# EAGLE library part ESP8266_NODEMCU (library AB_ESP8266_NODE_MCU)
ESP8266 NODE MCU ( OFFICIAL ) Created by Aadesh Borate Features : Input voltage : 4.5 V - 10 V Operating voltage : 3.3 V Flash Memory/SRAM : 4 MB / 64 KB Digital I/O Pins : 11 Analog Input Pins : 1 ADC Range : 0-3.3V Clock Speed : 80 MHz WiFi Built-In : 802.11 b/g/n PWM frequency : 100 Hz to 1 kHz Current sense : 0.13 V/A NodeMCU Size : 49 mm x 26 mm Buy this module at Robu.in <https://robu.in/product/nodemcu-cp2102-board/> <
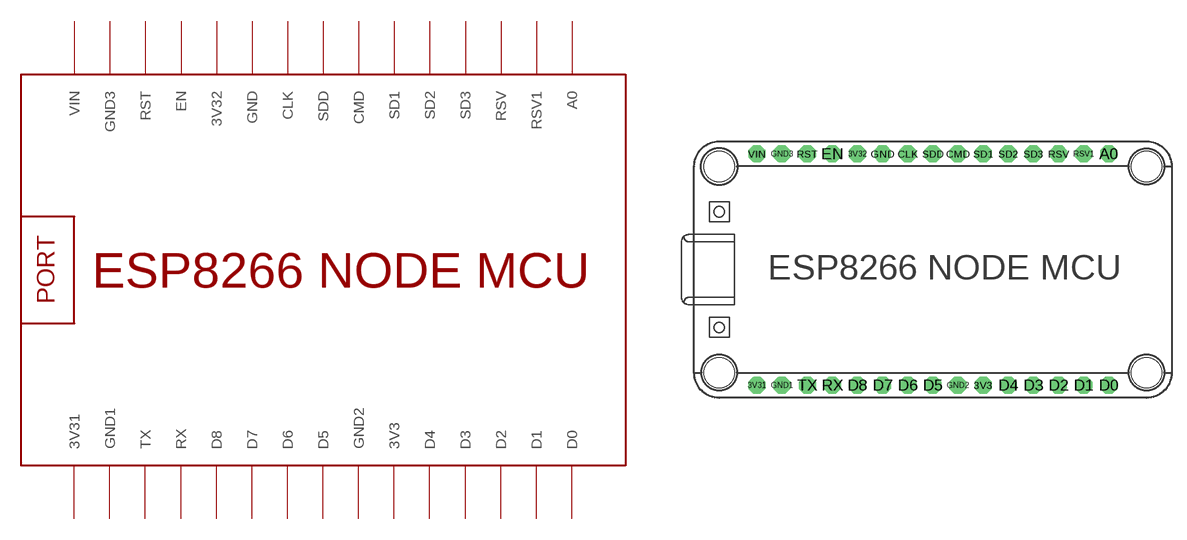
[diagram p0: symbol with the pads of ESP8266_NODEMCU; footprint ESP8266_NODEMCU]

Designator prefix -

## ESP8266_NODEMCU  [ESP8266_NODEMCU]
3V3  3V3
3V31  3V31
3V32  3V32
A0  A0
CLK  CLK
CMD  CMD
D0  D0
D1  D1
D2  D2
D3  D3
D4  D4
D5  D5
D6  D6
D7  D7
D8  D8
EN  EN
GND  GND
GND1  GND1
GND2  GND2
GND3  GND3
RST  RST
RSV  RSV
RSV1  RSV1
RX  RX
SD1  SD1
SD2  SD2
SD3  SD3
SDD  SDD
TX  TX
VIN  VIN

## Footprint ESP8266_NODEMCU (pad centres in mm)
ESP8266 NODE MCU ( OFFICIAL ) Created by Aadesh Borate Features : Input voltage : 4.5 V - 10 V Operating voltage : 3.3 V Flash Memory/SRAM : 4 MB / 64 KB Digital I/O Pins : 11 Analog Input Pins : 1 ADC Range : 0-3.3V Clock Speed : 80 MHz WiFi Built-In : 802.11 b/g/n PWM frequency : 100 Hz to 1 kHz Current sense : 0.13 V/A NodeMCU Size : 49 mm x 26 mm Buy this module at Robu.in <https://robu.in/product/nodemcu-cp2102-board/> <
drill 1.143 octagon: 3V3 5.588,-11.684; 3V31 -17.272,-11.684; 3V32 -7.112,11.684; A0 18.288,11.684; CLK -2.032,11.684; CMD 3.048,11.684; D0 18.288,-11.684; D1 15.748,-11.684; D2 13.208,-11.684; D3 10.668,-11.684; D4 8.128,-11.684; D5 0.508,-11.684; D6 -2.032,-11.684; D7 -4.572,-11.684; D8 -7.112,-11.684; EN -9.652,11.684; GND -4.572,11.684; GND1 -14.732,-11.684; GND2 3.048,-11.684; GND3 -14.732,11.684; RST -12.192,11.684; RSV 13.208,11.684; RSV1 15.748,11.684; RX -9.652,-11.684; SD1 5.588,11.684; SD2 8.128,11.684; SD3 10.668,11.684; SDD 0.508,11.684; TX -12.192,-11.684; VIN -17.272,11.684
hole 3.048 at 22.098,-10.414
hole 3.048 at 22.098,10.414
hole 3.048 at -21.082,-10.414
hole 3.048 at -21.082,10.414